# EAGLE library part 24LC128-I/ST (library Microchip_By_element14_Batch_1)
IC, EEPROM 128KBIT SERIAL 400KHZ
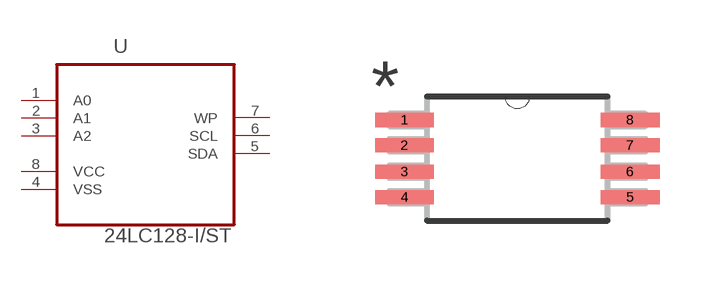
[diagram p65: symbol with the pads of SOP65P640X120-8N; footprint SOP65P640X120-8N]

Designator prefix U

## 24LC128-I/ST (MPN: 24LC128-I/ST; OC_FARNELL: 1296573; OC_NEWARK: 62K0578; PACKAGE: TSSOP-8; SUPPLIER: MICROCHIP)  [SOP65P640X120-8N]
1  A0  in
2  A1  in
3  A2  in
4  VSS  pas
5  SDA  out
6  SCL  in
7  WP  in
8  VCC  pwr

## Footprint SOP65P640X120-8N (pad centres in mm)
smd 1.473 x 0.356: 1 -2.819,0.965; 2 -2.819,0.33; 3 -2.819,-0.33; 4 -2.819,-0.965; 5 2.819,-0.965; 6 2.819,-0.33; 7 2.819,0.33; 8 2.819,0.965